# Altium footprint library 元器件.PCBLIB: 210 footprints (part 10 of 14)
Each footprint in its own frame and in the unit in brackets; x right, y up, seen from the top. Pads: shape width x height; smd on the part's side, far side on the other; paste and mask are expansions set on the pad; w line width, h text height; cw(c..) or ccw(c..) is an arc to the next point about the centre after c.
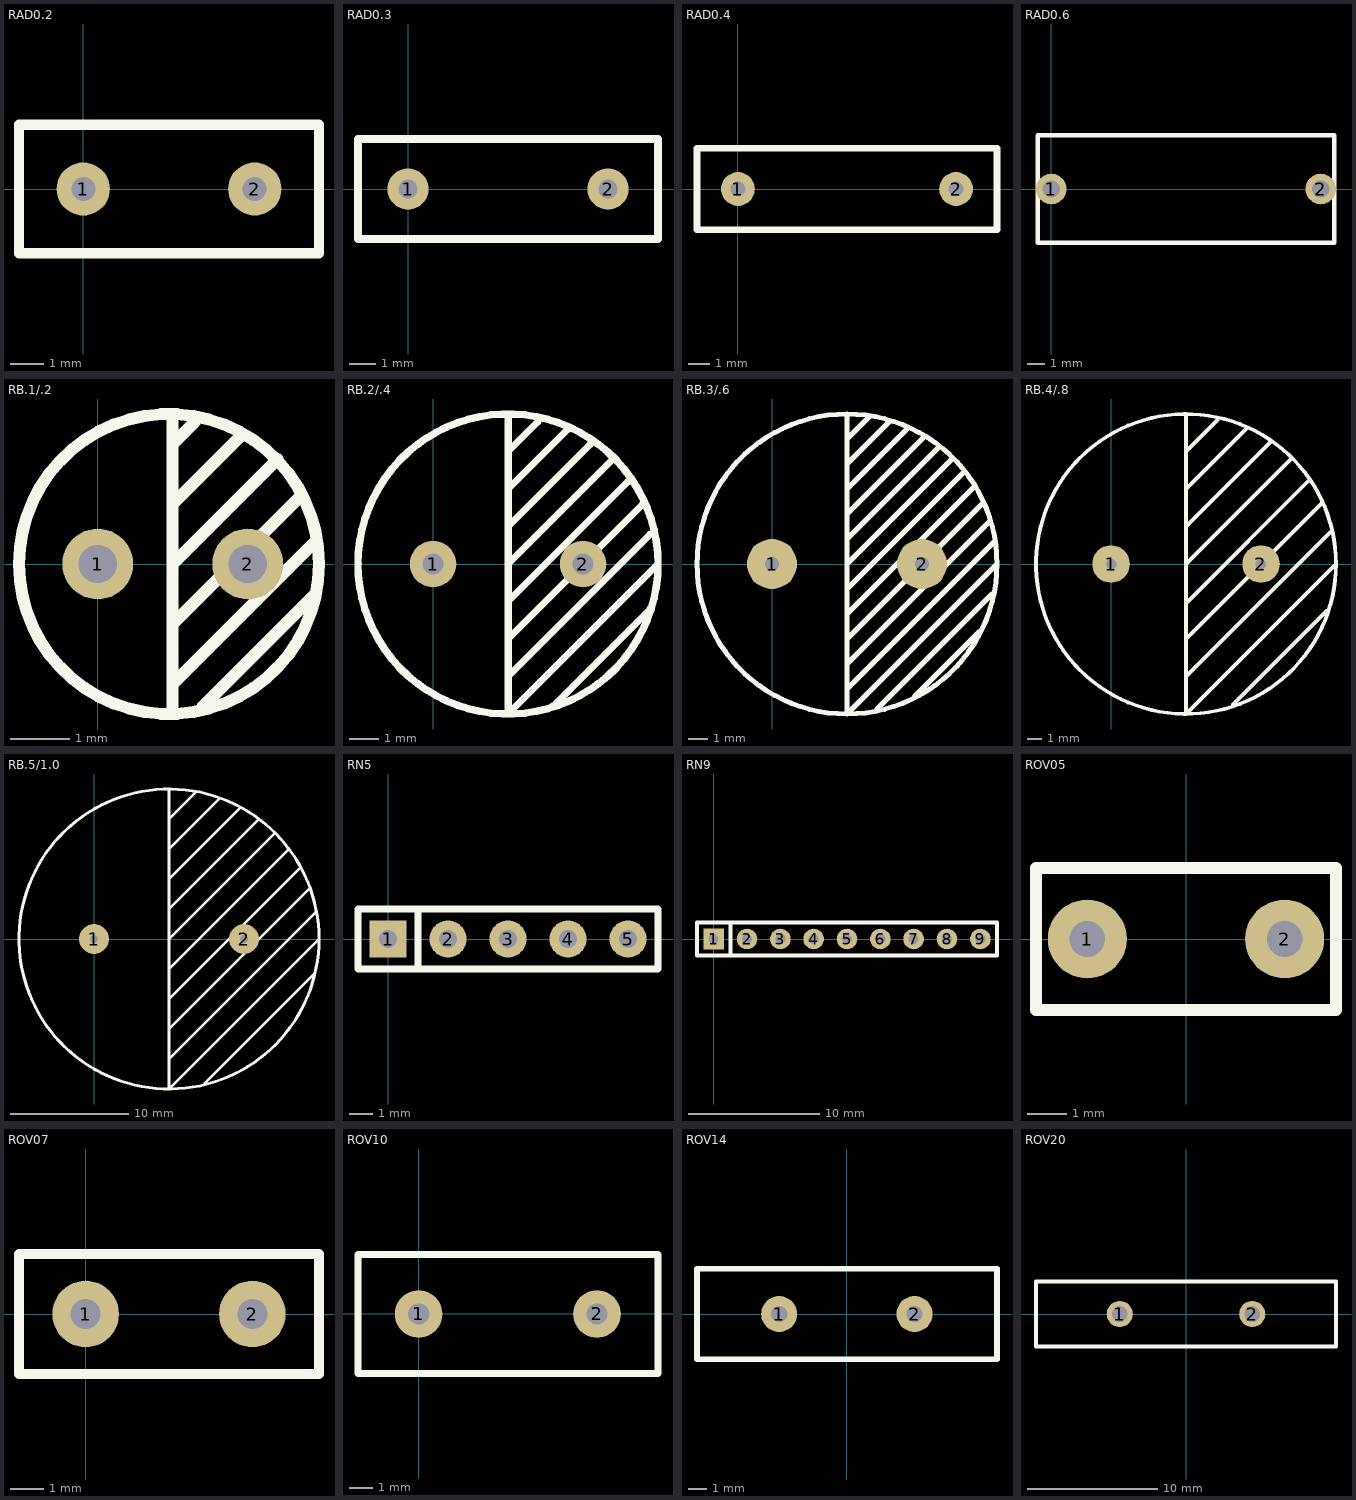
[diagram p9: the footprints below, top view; thin cyan lines are the x and y axes]

## RAD0.2 [mil]
pads (2):
  round 62 hole 28: 1(0,0) 2(200,0)
TopOverlay:
  lines w12: -75,-75 -75,75 275,75 275,-75 -75,-75

## RAD0.3 [mil]
pads (2):
  round 62 hole 28: 1(0,0) 2(300,0)
TopOverlay:
  lines w12: -75,-75 375,-75 375,75 -75,75 -75,-75

## RAD0.4 [mil]
pads (2):
  round 62 hole 28: 1(0,0) 2(400,0)
TopOverlay:
  lines w12: -75,-75 475,-75 475,75 -75,75 -75,-75

## RAD0.6 [mil]
pads (2):
  round 68 hole 38: 1(0,0) 2(600,0)
TopOverlay:
  lines w10: -30,-120 630,-120 630,120 -30,120 -30,-120

## RB.1/.2 [mm]
pads (2):
  round 1.2 hole 0.65: 1(0,0) 2(2.54,0)
TopOverlay:
  circle w0.203: c1.207,0 r2.54
  lines w0.203: 1.27,-2.54 1.27,2.54 ; 1.27,-2.032 3.683,0.381 ; 1.27,-1.016 3.429,1.143 ; 1.27,0 3.048,1.778 ; 1.27,1.016 2.413,2.159 ; 1.27,2.032 1.651,2.413 ; 1.778,-2.413 3.683,-0.508

## RB.2/.4 [mil]
pads (2):
  round 62 hole 28: 1(0,0) 2(200,0)
TopOverlay:
  circle w10: c100,0 r200
  lines w10: 100,-150 290,40 ; 100,-100 280,80 ; 100,-50 260,110 ; 100,0 240,140 ; 100,50 210,160 ; 100,100 180,180 ; 100,150 140,190 ; 100,200 100,-200 300,0 ; 160,-190 290,-60

## RB.3/.6 [mil]
pads (2):
  round 100 hole 28: 1(0,0) 2(300,0)
TopOverlay:
  circle w10: c150,0 r300
  lines w10: 150,-250 445,45 ; 150,-200 435,85 ; 150,-150 420,120 ; 150,-100 405,155 ; 150,-50 385,185 ; 150,0 360,210 ; 150,50 335,235 ; 150,100 305,255 ; 150,150 270,270 ; 150,200 235,285 ; 150,250 195,295 ; 150,300 150,-300 450,0 ; 210,-290 440,-60 ; 285,-265 415,-135

## RB.4/.8 [mil]
pads (2):
  round 100 hole 28: 1(0,0) 2(400,0)
TopOverlay:
  circle w10: c200,0 r400
  lines w10: 200,-300 585,85 ; 200,-200 560,160 ; 200,0 480,280 ; 200,100 425,325 ; 200,200 360,360 ; 200,300 285,385 ; 200,400 200,-400 595,-5 ; 205,-100 530,225 ; 325,-375 575,-125

## RB.5/1.0 [mil]
pads (2):
  round 100 hole 28: 1(0,0) 2(500,0)
TopOverlay:
  circle w10: c250,0 r500
  lines w10: 250,-400 740,90 ; 250,-300 720,170 ; 250,-200 685,235 ; 250,-100 650,300 ; 250,0 600,350 ; 250,100 550,400 ; 250,200 485,435 ; 250,300 415,465 ; 250,400 340,490 ; 250,500 250,-500 750,0 ; 370,-480 735,-115

## RN5 [mil]
pads (5):
  rect 62x62 hole 30: 1(0,0)
  round 62 hole 30: 2(100,0) 3(200,0) 4(300,0) 5(400,0)
TopOverlay:
  lines w12: 50,-50 50,50 ; -50,-50 450,-50 450,50 -50,50 -50,-50

## RN9 [mil]
pads (9):
  rect 62x62 hole 30: 1(0,0)
  round 62 hole 30: 2(100,0) 3(200,0) 4(300,0) 5(400,0) 6(500,0) 7(600,0) 8(700,0) 9(800,0)
TopOverlay:
  lines w12: 50,-50 50,50 ; -50,-50 850,-50 850,50 -50,50 -50,-50

## ROV05 [mm]
pads (2):
  round 2 hole 0.9: 1(-2.5,0) 2(2.5,0)
TopOverlay:
  lines w0.305: -3.8,-1.8 3.8,-1.8 3.8,1.8 -3.8,1.8 -3.8,-1.8

## ROV07 [mm]
pads (2):
  round 2 hole 0.9: 1(0,0) 2(5,0)
TopOverlay:
  lines w0.305: -2,-1.8 -2,1.8 7,1.8 7,-1.8 -2,-1.8

## ROV10 [mm]
pads (2):
  round 2 hole 0.9: 1(0,0) 2(7.5,0)
TopOverlay:
  lines w0.305: -2.55,-2.5 10.065,-2.5 10.065,2.5 -2.55,2.5 -2.55,-2.5

## ROV14 [mm]
pads (2):
  round 2 hole 0.9: 1(-3.75,0) 2(3.75,0)
TopOverlay:
  lines w0.305: -8.3,-2.5 8.315,-2.5 8.315,2.5 -8.3,2.5 -8.3,-2.5

## ROV20 [mm]
pads (2):
  round 2 hole 1.2: 1(-5.08,0) 2(5.08,0)
TopOverlay:
  lines w0.305: -11.5,-2.5 -11.5,2.5 11.5,2.5 11.5,-2.5 -11.5,-2.5